# Altium footprint library 0527450697.PcbLib: 1 footprints
Each footprint in its own frame and in the unit in brackets; x right, y up, seen from the top. Pads: shape width x height; smd on the part's side, far side on the other; paste and mask are expansions set on the pad; w line width, h text height; cw(c..) or ccw(c..) is an arc to the next point about the centre after c.
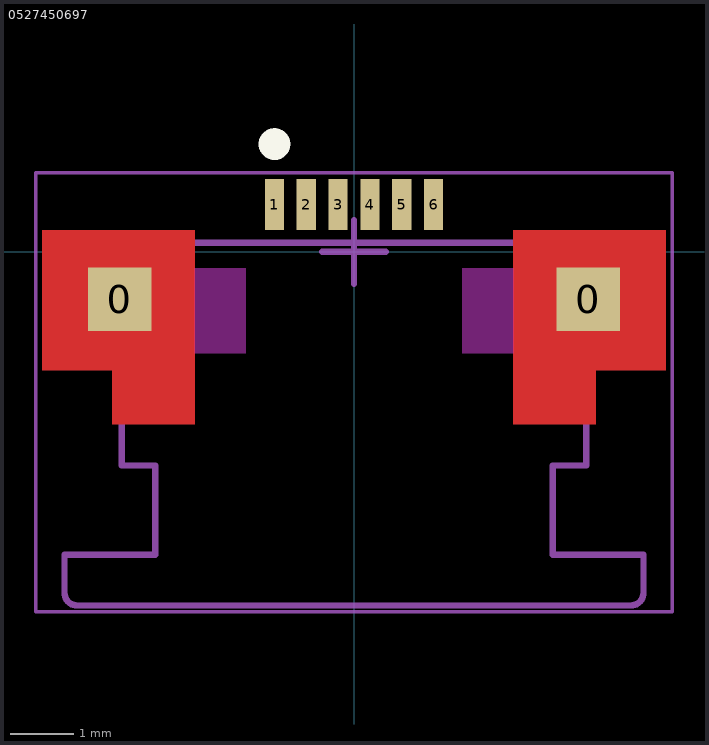
[diagram p0: the footprint, top view; thin cyan lines are the x and y axes]

## 0527450697 [mm] "CONN FPC TOP 6POS 0.5MM R/A"
pads (8):
  rect 1x1 smd: 0(-3.683,-0.743) 0(3.683,-0.743)
  rect 0.3x0.8 smd: 1(-1.25,0.743) 2(-0.75,0.743) 3(-0.25,0.743) 4(0.25,0.743) 5(0.75,0.743) 6(1.25,0.743)
Top Layer:
  region: -2.5,0.343 -4.9,0.343 -4.9,-1.857 -3.8,-1.857 -3.8,-2.707 -2.5,-2.707
  region: 2.5,0.343 4.9,0.343 4.9,-1.857 3.8,-1.857 3.8,-2.707 2.5,-2.707
Top Overlay:
  circle w0.25: c-1.25,1.693 r0.125
Keep-Out Layer:
  region: -1.7,-0.257 -2.5,-0.257 -2.5,-1.597 -1.7,-1.597
  region: 1.7,-0.257 2.5,-0.257 2.5,-1.597 1.7,-1.597
Top 3D Body:
  lines w0.1: -4.55,-4.759 -4.55,-5.357 ccw(c-4.35,-5.357) -4.35,-5.557 4.35,-5.557 ccw(c4.35,-5.357) 4.55,-5.357 4.55,-4.757 3.125,-4.757 3.125,-3.357 3.65,-3.357 ; -4.549,-4.758 -4.549,-4.757 -3.125,-4.757 -3.125,-3.357 -3.65,-3.357 -3.65,0.143 3.65,0.143 3.65,-3.337
Top Courtyard:
  lines w0.05: -5,-5.657 5,-5.657 5,1.243 -5,1.243 -5,-5.657
  lines w0.1: -0.5,0 0.5,0 ; 0,-0.5 0,0.5
3D body "527450697.stp": height 2.01, standoff 0.01, extent -4.55,-5.557 4.55,0.843